# Altium schematic symbol library USB接口.SchLib: 3 symbols
Pins are listed as number, name and electrical type; pins without a type are passive.

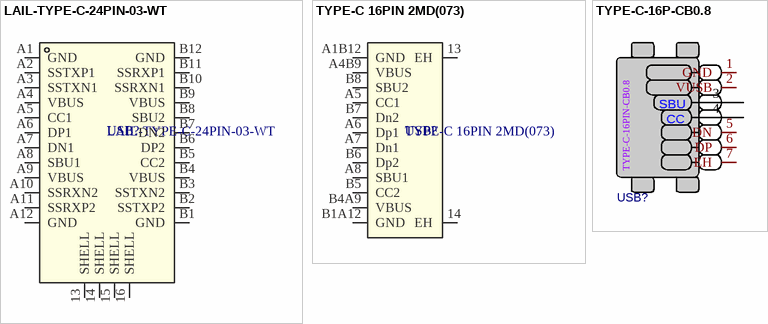
[diagram p0: symbols LAIL-TYPE-C-24PIN-03-WT to TYPE-C-16P-CB0.8]

## LAIL-TYPE-C-24PIN-03-WT
designator USB?
连接器类型:Type-C;协议标准:USB 3.1;公母:母;安装方式:卧贴;触点数量:24P;端口数量:1;额定电流 - 电源:3A;工作温度:-25℃~+85℃;; Manufacturer: LAILAN(莱联); SEEX_AUTHOR: ref42; SEEX_COMPONENT_ID: C55064173; Connect-Disconnect Life: 1万次; Connector Type: Type-C; Current Rating-Power: 3A; Detection color: 黑色; Gender: 母; Number of Contacts: 24P; Number of Ports: 1; Protocol Standard: USB 3.1; Voltage Rating: 5V; SEEX_PROJECT_URL: https://github.com/ref42/seex; Footprint: USB-C-SMD_MUP-U20001-1; Datasheet: https://item.szlcsc.com/datasheet/LAIL-TYPE-C-24PIN-03-WT/58687211.html; JLCPCB Part Class: Extended Part; LCSC Part Name: Type-C 母 卧贴; Manufacturer Part: LAIL-TYPE-C-24PIN-03-WT; Mounting Type: 卧贴; Operating Temperature: -25℃~+85℃; Supplier: LCSC; Supplier Footprint: SMD; Supplier Part: C55064173
footprint USB-C-SMD_MUP-U20001-1 (USBtypeCU20001; SMD)
pins: 13 SHELL, 14 SHELL, 15 SHELL, 16 SHELL, A1 GND, A2 SSTXP1, A3 SSTXN1, A4 VBUS, A5 CC1, A6 DP1, A7 DN1, A8 SBU1, A9 VBUS, A10 SSRXN2, A11 SSRXP2, A12 GND, B1 GND, B2 SSTXP2, B3 SSTXN2, B4 VBUS, B5 CC2, B6 DP2, B7 DN2, B8 SBU2, B9 VBUS, B10 SSRXN1, B11 SSRXP1, B12 GND

## TYPE-C 16PIN 2MD(073)
designator USB?
连接器类型:Type-C;协议标准:-;公母:母;安装方式:卧贴;触点数量:16P;端口数量:1;额定电流 - 电源:3A;工作温度:-25℃~+85℃;; Manufacturer: SHOU HAN(首韩); SEEX_AUTHOR: ref42; SEEX_COMPONENT_ID: C2765186; Connect-Disconnect Life: 1万次; Current Rating-Power: 3A; Detection color: 黑色; Gender: 母; Number of Contacts: 16P; Number of Ports: 1; Voltage Rating: 5V; SEEX_PROJECT_URL: https://github.com/ref42/seex; Footprint: USB-C-SMD_TYPE-C-16PIN-2MD-073; Connector Type: Type-C; Datasheet: https://item.szlcsc.com/datasheet/TYPE-C%252016PIN%25202MD(073)/2901843.html; JLCPCB Part Class: Extended Part; LCSC Part Name: Type-C 母 卧贴; Length: 7.35mm; Manufacturer Part: TYPE-C 16PIN 2MD(073); Mounting Type: 卧贴; Operating Temperature: -25℃~+85℃; Supplier: LCSC; Supplier Footprint: SMD; Supplier Part: C2765186
footprint USB-C-SMD_TYPE-C-16PIN-2MD-073
pins: 13 EH, 14 EH, A1B12 GND, A4B9 VBUS, A5 CC1, A6 Dp1, A7 Dn1, A8 SBU1, B1A12 GND, B4A9 VBUS, B5 CC2, B6 Dp2, B7 Dn2, B8 SBU2

## TYPE-C-16P-CB0.8
designator USB?  (value not drawn)
BOM_Manufacturer: kinghelm(金航标); BOM_Manufacturer Part: KH-TYPE-C-CB.W-16P; Contributor: WOSHI6666444444; BOM_Supplier: LCSC; BOM_Supplier Part: C2688792; BOM_JLCPCB Part Class: Extended Part; spicePre: U; spiceSymbolName: TYPE-C-16P-CB0.8
footprint USB-C_SMD-TYPE-C-31-M-12
pins: 1 GND, 2 VUSB, 3 8, 4 9, 5 DN, 6 DP, 7 EH
text: SBU; CC; TYPE-C-16PIN-CB0.8